# EAGLE library part STM7789_IPS_DISPLAY (library me433-2021)
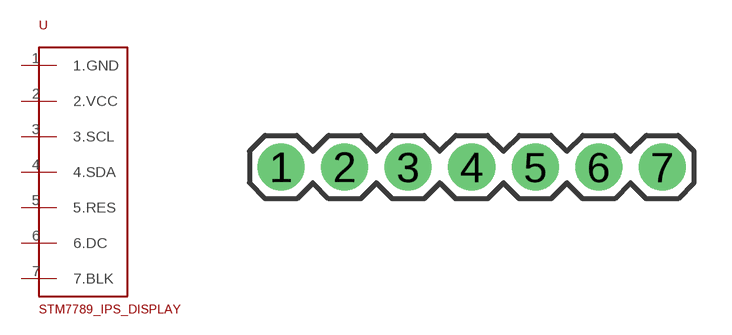
[diagram p9: symbol with the pads of 1X07; footprint 1X07]

Designator prefix -

## STM7789_IPS_DISPLAY  [1X07]
1  1.GND
2  2.VCC
3  3.SCL
4  4.SDA
5  5.RES
6  6.DC
7  7.BLK

## Footprint 1X07 (pad centres in mm)
Plated Through Hole -7 Pin Specifications: Pin count:7 Pin pitch:0.1" Example device(s): CONN_07
drill 1.016 pad 1.88: 1 0,0; 2 2.54,0; 3 5.08,0; 4 7.62,0; 5 10.16,0; 6 12.7,0; 7 15.24,0